# Altium schematic symbol library IMU.SchLib: 1 symbol
Pins are listed as number, name and electrical type; pins without a type are passive.

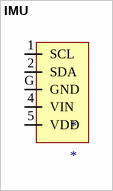
[diagram p0: symbol IMU]

## IMU
designator *
footprint IMU
pins: 1 SCL, 2 SDA, 4 VIN, 5 VDD, G GND